# Altium schematic symbol library Ferrites.SCHLIB: 24 symbols
Pins are listed as number, name and electrical type; pins without a type are passive.

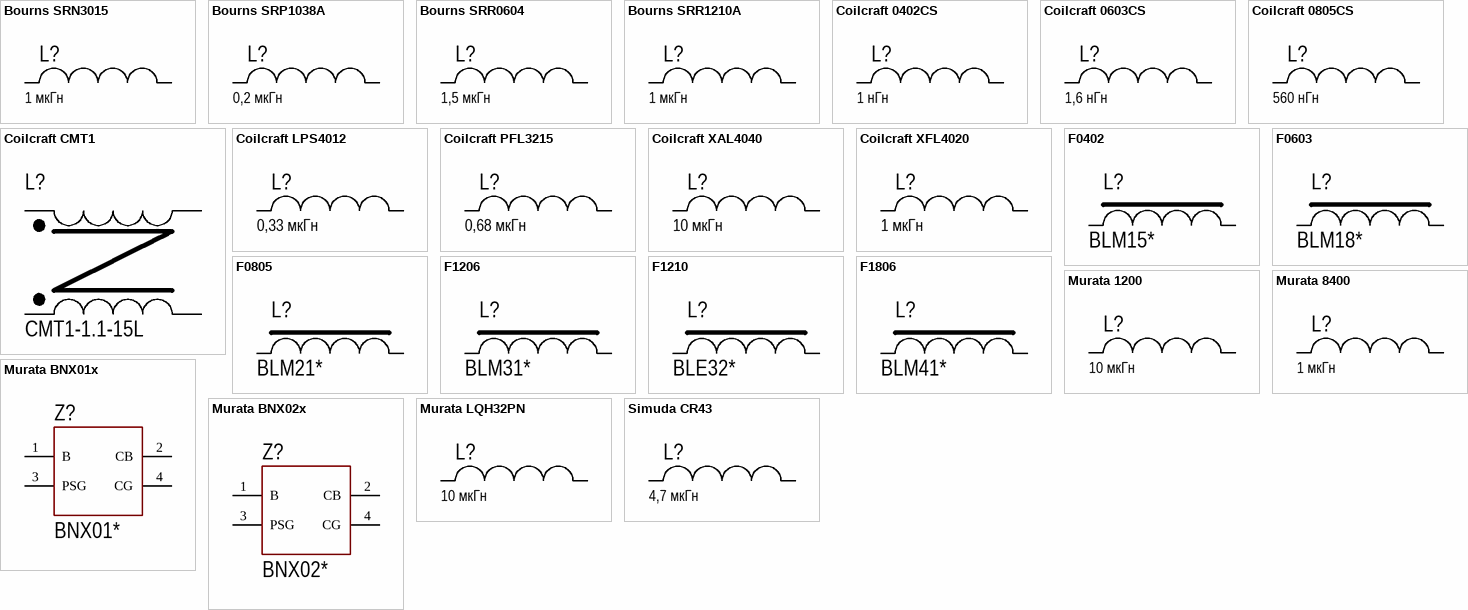
[diagram p0: symbols Bourns SRN3015 to Simuda CR43]

## Bourns SRN3015
designator L?, comment value 1 мкГн  (hidden comment: SRN3015-1R0Y)
Bourns SRN3015 Series; Code: 1R0Y; Part: SRN3015-
footprint Bourns SRN3015
pins: 1, 2

## Bourns SRP1038A
designator L?, comment value 0,2 мкГн  (hidden comment: SRP1038-R20M)
Bourns SRP1038A Series; Code: R20M; Part: SRP1038-
footprint Bourns SRP1038A
pins: 1, 2

## Bourns SRR0604
designator L?, comment value 1,5 мкГн  (hidden comment: SRR0604-1R5ML)
Bourns SRR0604 Series; Code: 1R5ML; Part: SRR0604-
footprint Bourns SRR0604 (Precision Wire Wound Inductor, 2-Leads, Body 6,50x6,50mm, IPC Medium Density)
pins: 1, 2

## Bourns SRR1210A
designator L?, comment value 1 мкГн  (hidden comment: SRR1210A-1R0Y)
Bourns SRR1210A Series; Code: 1R0Y; Part: SRR1210A-
footprint Bourns SRR1210A (Precision Wire Wound Inductor, 2-Leads, Body 12,00x12,00mm, IPC Medium Density)
pins: 1, 2

## Coilcraft 0402CS
designator L?, comment ValueSCH: 1 нГн  (hidden comment: 0402CS-1N0XJL)
High Temperature Ceramic Chip Inductors; Part: 0402CS; Value: 1N0
footprint Coilcraft 0402CS
pins: 1, 2

## Coilcraft 0603CS
designator L?, comment ValueSCH: 1,6 нГн  (hidden comment: 0603CS-1N6XJL)
High Temperature Ceramic Chip Inductors; Part: 0603CS; Value: 1N6
footprint Coilcraft 0603CS
pins: 1, 2

## Coilcraft 0805CS
designator L?, comment ValueSCH: 560 нГн  (hidden comment: 0805CS-561XJE)
High Temperature Ceramic Chip Inductors; Part: 0805CS; Value: 561
footprint Coilcraft 0805CS
pins: 1, 2

## Coilcraft CMT1
designator L?, comment CMT1-1.1-15L
Common Mode Line Chokes; Current: 15; Inductance: 1.1; Series: CMT1
footprint CMT1 Series
pins: 1, 2, 3, 4

## Coilcraft LPS4012
designator L?, comment ValueSCH: 0,33 мкГн  (hidden comment: LPS4012-331MR)
LPS4012 Series Low Profile Shielded Power Inductors; Value: 331; Part: LPS4012
footprint Coilcraft LPS4012
pins: 1, 2

## Coilcraft PFL3215
designator L?, comment ValueSCH: 0,68 мкГн  (hidden comment: PFL3215-681ME)
PFL3215 Series Shielded Power Inductors; Value: 681; Part: PFL3215
footprint Coilcraft PFL3215
pins: 1, 2

## Coilcraft XAL4040
designator L?, comment ValueSCH: 10 мкГн  (hidden comment: XAL4040-103ME)
XAL4040 Series High Current Shielded Power Inductors; Value: 103; Part: XAL4040
footprint Coilcraft XAL4040
pins: 1, 2

## Coilcraft XFL4020
designator L?, comment ValueSCH: 1 мкГн  (hidden comment: XFL4020-102ME)
XFL4020 Series Ultra-Low DCR Shielded Power Inductors; Value: 102; Part: XFL4020
footprint Coilcraft XFL4020
pins: 1, 2

## F0402
designator L?, comment BLM15*
Chip Ferrite Bead; Current: *; Impedance: *
footprint F0402_MD (Chip Ferrite bead, 2-Leads, Body 1.0x0.5mm, IPC Medium Density)
footprint F0402_HD (Chip Ferrite bead, 2-Leads, Body 1.0x0.5mm, IPC High Density)
footprint F0402_LD (Chip Ferrite bead, 2-Leads, Body 1.0x0.5mm, IPC Low Density)
pins: 1, 2

## F0603
designator L?, comment BLM18*
Chip Ferrite Bead; Current: *; Impedance: *
footprint F0603_HD (Chip Ferrite bead, 2-Leads, Body 1.6x0.8mm, IPC High Density)
footprint F0603_MD (Chip Ferrite bead, 2-Leads, Body 1.6x0.8mm, IPC Medium Density Density)
footprint F0603_LD (Chip Ferrite bead, 2-Leads, Body 1.6x0.8mm, IPC Low Density)
pins: 1, 2

## F0805
designator L?, comment BLM21*
Chip Ferrite Bead; Current: *; Impedance: *
footprint F0805_HD (Chip Ferrite bead, 2-Leads, Body 2.0x1.25mm, IPC High Density)
footprint F0805_LD (Chip Ferrite bead, 2-Leads, Body 2.0x1.25mm, IPC Low Density)
footprint F0805_MD (Chip Ferrite bead, 2-Leads, Body 2.0x1.25mm, IPC Medium Density)
pins: 1, 2

## F1206
designator L?, comment BLM31*
Chip Ferrite Bead; Current: *; Impedance: *
footprint F1206_HD (Chip Ferrite bead, 2-Leads, Body 3.2x1.6mm, IPC High Density)
footprint F1206_LD (Chip Ferrite bead, 2-Leads, Body 3.2x1.6mm, IPC Low Density)
footprint F1206_MD (Chip Ferrite bead, 2-Leads, Body 3.2x1.6mm, IPC Medium Density)
pins: 1, 2

## F1210
designator L?, comment BLE32*
Chip Ferrite Bead; Current: *; Impedance: *
footprint F1210_HD (Chip Inductor, 2-Leads, Body 3.20x2.50mm, IPC High Density)
footprint F1210_LD (Chip Inductor, 2-Leads, Body 3.20x2.50mm, IPC Low Density)
footprint F1210_MD (Chip Inductor, 2-Leads, Body 3.20x2.50mm, IPC Medium Density)
pins: 1, 2

## F1806
designator L?, comment BLM41*
Chip Ferrite Bead; Current: *; Impedance: *
footprint F1806_HD (Chip Inductor, 2-Leads, Body 4.50x1.60mm, IPC High Density)
footprint F1806_LD (Chip Inductor, 2-Leads, Body 4.50x1.60mm, IPC Low Density)
footprint F1806_MD (Chip Inductor, 2-Leads, Body 4.50x1.60mm, IPC Medium Density)
pins: 1, 2

## Murata 1200
designator L?, comment ValueSCH: 10 мкГн  (hidden comment: 12RS103C)
Murata 1200 Series; Part: 12RS; Value: 103
footprint Murata 1200
pins: 1, 2

## Murata 8400
designator L?, comment Value_SCH: 1 мкГн  (hidden comment: Murata 84102C)
Murata 8400 Series; Part: 84; Value: 102; Vendor: Murata
footprint Murata 8400 (Murata 8400 Series)
pins: 1, 2

## Murata BNX01x
designator Z?, comment BNX01*
Murata BNX EMI/RFI Filter; Part: BNX01; Code: *
footprint BNX01x Series
pins: 1 B, 2 CB, 3 PSG, 4 CG

## Murata BNX02x
designator Z?, comment BNX02*
Murata BNX EMI/RFI Filter; Part: BNX02; Code: *
footprint BNX02x Series (3.1)
pins: 1 B (power), 2 CB (power), 3 PSG (power), 4 CG (power)

## Murata LQH32PN
designator L?, comment ValueSCH: 10 мкГн  (hidden comment: LQH32PN100)
Murata LQH32PN Series; Value: 100; Part: LQH32PN
footprint Murata LQH32PN
pins: 1, 2

## Simuda CR43
designator L?, comment ValueSCH: 4,7 мкГн  (hidden comment: CR43NP4R7M)
Simuda CR43; Part: CR43NP; Value: 4R7
footprint Simuda CR43
pins: 1, 2